# EAGLE library part 79107-36 (library untitled)
RECEPTACAL
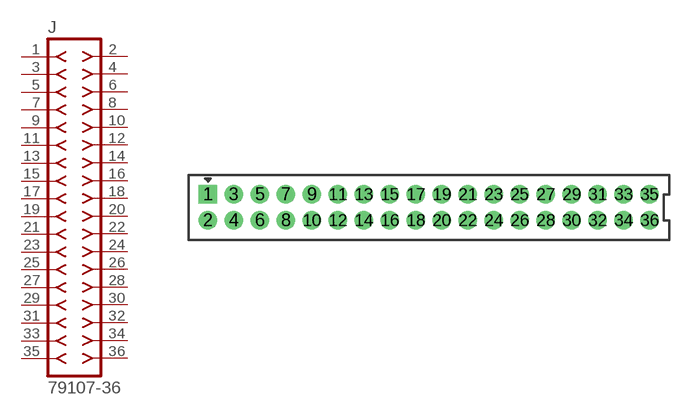
[diagram p152: symbol with the pads of 79107-36; footprint 79107-36]

Designator prefix J

## 79107-36  [79107-36]
1  1  pas
2  2  pas
3  3  pas
4  4  pas
5  5  pas
6  6  pas
7  7  pas
8  8  pas
9  9  pas
10  10  pas
11  11  pas
12  12  pas
13  13  pas
14  14  pas
15  15  pas
16  16  pas
17  17  pas
18  18  pas
19  19  pas
20  20  pas
21  21  pas
22  22  pas
23  23  pas
24  24  pas
25  25  pas
26  26  pas
27  27  pas
28  28  pas
29  29  pas
30  30  pas
31  31  pas
32  32  pas
33  33  pas
34  34  pas
35  35  pas
36  36  pas

## Footprint 79107-36 (pad centres in mm)
RECEPTACAL Dual Row, Vertical, Through-Hole
drill 0.914 square: 1 -17,1
drill 0.914 round: 2 -17,-1; 3 -15,1; 4 -15,-1; 5 -13,1; 6 -13,-1; 7 -11,1; 8 -11,-1; 9 -9,1; 10 -9,-1; 11 -7,1; 12 -7,-1; 13 -5,1; 14 -5,-1; 15 -3,1; 16 -3,-1; 17 -1,1; 18 -1,-1; 19 1,1; 20 1,-1; 21 3,1; 22 3,-1; 23 5,1; 24 5,-1; 25 7,1; 26 7,-1; 27 9,1; 28 9,-1; 29 11,1; 30 11,-1; 31 13,1; 32 13,-1; 33 15,1; 34 15,-1; 35 17,1; 36 17,-1